# EAGLE library part MEGA8L-DEV (library SAM-MEGA8L)
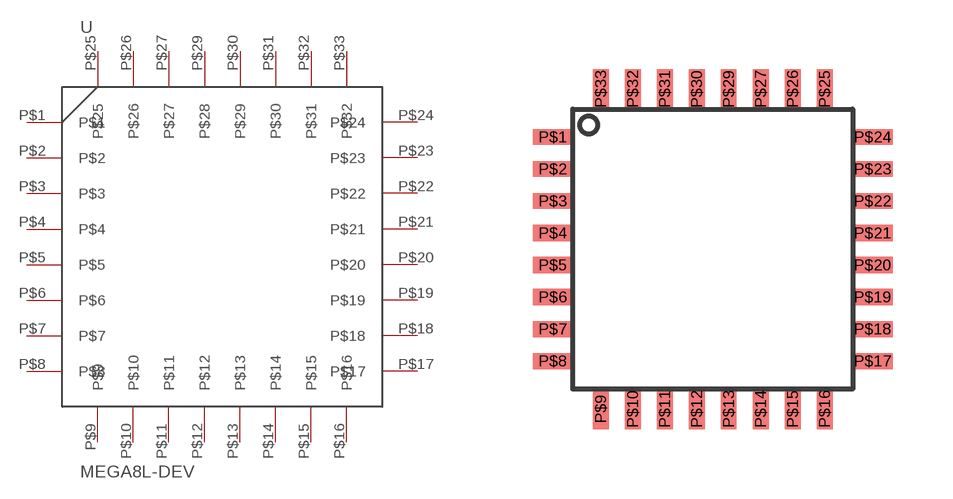
[diagram p0: symbol with the pads of TQFP-MEGA8L; footprint TQFP-MEGA8L]

Designator prefix -

## MEGA8L-DEV  [TQFP-MEGA8L]
P$1  P$1
P$2  P$2
P$3  P$3
P$4  P$4
P$5  P$5
P$6  P$6
P$7  P$7
P$8  P$8
P$9  P$9
P$10  P$10
P$11  P$11
P$12  P$12
P$13  P$13
P$14  P$14
P$15  P$15
P$16  P$16
P$17  P$17
P$18  P$18
P$19  P$19
P$20  P$20
P$21  P$21
P$22  P$22
P$23  P$23
P$24  P$24
P$25  P$25
P$26  P$26
P$27  P$27
P$29  P$28
P$30  P$29
P$31  P$30
P$32  P$31
P$33  P$32

## Footprint TQFP-MEGA8L (pad centres in mm)
smd 1 x 0.4: P$1 4.8,9.9; P$2 4.8,9.1; P$3 4.8,8.3; P$4 4.8,7.5; P$5 4.8,6.7; P$6 4.8,5.9; P$7 4.8,5.1; P$8 4.8,4.3; P$17 12.8,4.3; P$18 12.8,5.1; P$19 12.8,5.9; P$20 12.8,6.7; P$21 12.8,7.5; P$22 12.8,8.3; P$23 12.8,9.1; P$24 12.8,9.9
smd 0.4 x 1: P$9 6,3.1; P$10 6.8,3.1; P$11 7.6,3.1; P$12 8.4,3.1; P$13 9.2,3.1; P$14 10,3.1; P$15 10.8,3.1; P$16 11.6,3.1; P$25 11.6,11.1; P$26 10.8,11.1; P$27 10,11.1; P$29 9.2,11.1; P$30 8.4,11.1; P$31 7.6,11.1; P$32 6.8,11.1; P$33 6,11.1